# Altium footprint library PDU.PcbLib: 22 footprints (part 2 of 2)
Each footprint in its own frame and in the unit in brackets; x right, y up, seen from the top. Pads: shape width x height; smd on the part's side, far side on the other; paste and mask are expansions set on the pad; w line width, h text height; cw(c..) or ccw(c..) is an arc to the next point about the centre after c.
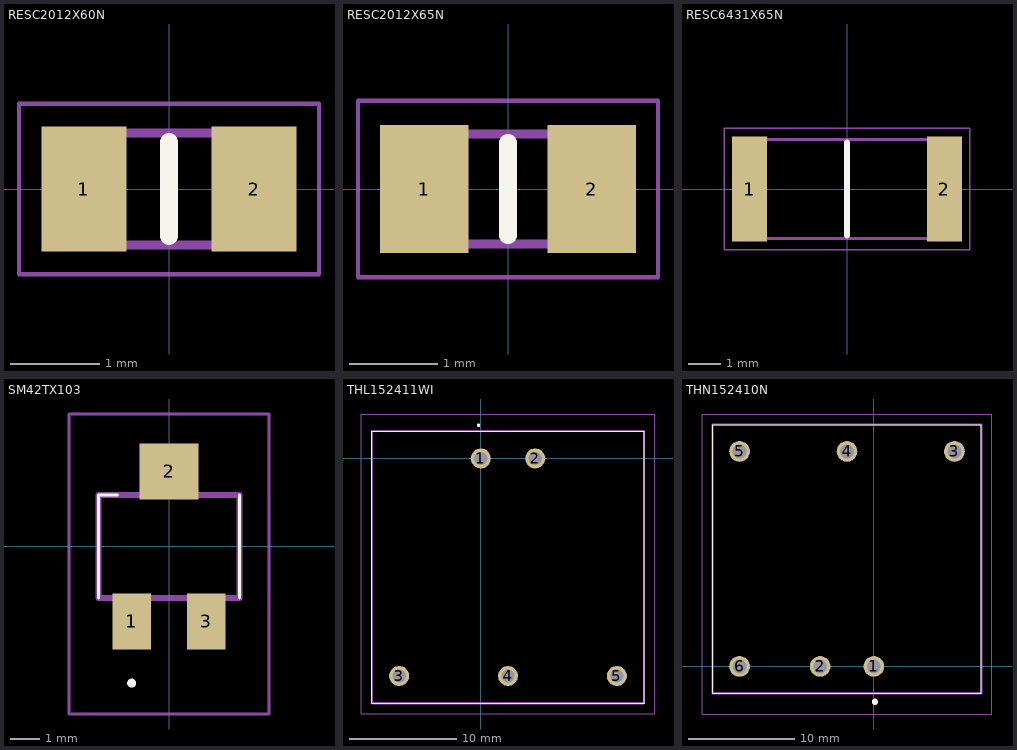
[diagram p1: the footprints below, top view; thin cyan lines are the x and y axes]

## RESC2012X60N [mm]
pads (2):
  rect 0.95x1.4 smd: 1(-0.95,0) 2(0.95,0)
Top Overlay:
  lines w0.2: 0,-0.525 0,0.525
Top 3D Body:
  lines w0.1: -1,-0.625 -1,0.625 1,0.625 1,-0.625 -1,-0.625
Top Courtyard:
  lines w0.05: -1.675,-0.95 -1.675,0.95 1.675,0.95 1.675,-0.95 -1.675,-0.95
3D body "RC0805FR-0710KL.stp": height 0.6, standoff 0, extent -1,-0.625 1,0.625

## RESC2012X65N [mm]
pads (2):
  rect 1x1.45 smd: 1(-0.95,0) 2(0.95,0)
Top Overlay:
  lines w0.2: 0,-0.525 0,0.525
Top 3D Body:
  lines w0.1: -1,-0.625 -1,0.625 1,0.625 1,-0.625 -1,-0.625
Top Courtyard:
  lines w0.05: -1.7,-1 -1.7,1 1.7,1 1.7,-1 -1.7,-1
3D body "CRG0805F470R.stp": height 0.56, standoff 0, extent -1,-0.625 1,0.625

## RESC6431X65N [mm]
pads (2):
  rect 1.1x3.3 smd: 1(-3.05,0) 2(3.05,0)
Top Overlay:
  lines w0.2: 0,-1.45 0,1.45
Top 3D Body:
  lines w0.1: -3.175,-1.55 -3.175,1.55 3.175,1.55 3.175,-1.55 -3.175,-1.55
Top Courtyard:
  lines w0.05: -3.85,-1.9 -3.85,1.9 3.85,1.9 3.85,-1.9 -3.85,-1.9
3D body "RC2512JK-07470RL.stp": height 0.65, standoff 0, extent -3.175,-1.55 3.175,1.55

## SM42TX103 [mm]
pads (3):
  rect 1.3x1.9 smd: 1(-1.27,-2.55) 3(1.27,-2.55)
  rect 2x1.9 smd: 2(0,2.55)
Top Overlay:
  lines w0.1: -2.4,1.75 -1.75,1.75 -2.4,1.75 ; -2.4,1.75 -2.4,-1.75 -2.4,1.75 ; 2.4,-1.75 2.4,1.75 2.4,-1.75
  lines w0.2: -1.27,-4.7 ccw(c-1.27,-4.65) -1.27,-4.6 ; -1.27,-4.7 cw(c-1.27,-4.65) -1.27,-4.6 ; -1.27,-4.7 ccw(c-1.27,-4.65) -1.27,-4.6
Top 3D Body:
  lines w0.2: -2.4,-1.75 2.4,-1.75 2.4,1.75 -2.4,1.75 -2.4,-1.75
Top Courtyard:
  lines w0.1: -3.4,-5.7 3.4,-5.7 3.4,4.5 -3.4,4.5 -3.4,-5.7
3D body "SM-42TX103.stp": height 5.4, standoff 0, extent -2.4,-3.37 2.4,3.31

## THL152411WI [mm]
pads (5):
  round 1.875 hole 1.25: 1(0,0) 2(5.08,0) 3(-7.62,-20.3) 4(2.54,-20.3) 5(12.7,-20.3)
Top Overlay:
  lines w0.1: -10.16,-22.85 15.24,-22.85 15.24,2.55 -10.16,2.55 -10.16,-22.85
  lines w0.2: -0.26,3.1 cw(c-0.21,3.1) -0.16,3.1 ; -0.26,3.1 ccw(c-0.21,3.1) -0.16,3.1 ; -0.26,3.1 cw(c-0.21,3.1) -0.16,3.1
Top 3D Body:
  lines w0.2: -10.16,-22.85 15.24,-22.85 15.24,2.55 -10.16,2.55 -10.16,-22.85
Top Courtyard:
  lines w0.1: -11.16,-23.85 16.24,-23.85 16.24,4.15 -11.16,4.15 -11.16,-23.85
3D body "THL_15-2411WI.stp": height 16, standoff -0.16, extent -10.16,-22.84 15.24,2.56

## THN152410N [mm]
pads (6):
  round 1.95 hole 1.3: 1(0,0) 2(-5.08,0) 3(7.62,20.32) 4(-2.54,20.32) 5(-12.7,20.32) 6(-12.7,0)
Top Overlay:
  lines w0.1: -15.24,-2.54 10.16,-2.54 10.16,22.86 -15.24,22.86 -15.24,-2.54
  lines w0.3: 0.1,-3.5 ccw(c0.1,-3.35) 0.1,-3.2 ccw(c0.1,-3.35) 0.1,-3.5
Top 3D Body:
  lines w0.2: -15.24,-2.54 10.16,-2.54 10.16,22.86 -15.24,22.86 -15.24,-2.54
Top Courtyard:
  lines w0.1: -16.24,-4.5 11.16,-4.5 11.16,23.86 -16.24,23.86 -16.24,-4.5
3D body "THN_15-2410N.stp": height 15.7, standoff 0.2, extent -15.24,-2.52 10.16,22.88